# EAGLE library part 74XX04 (library yapo)
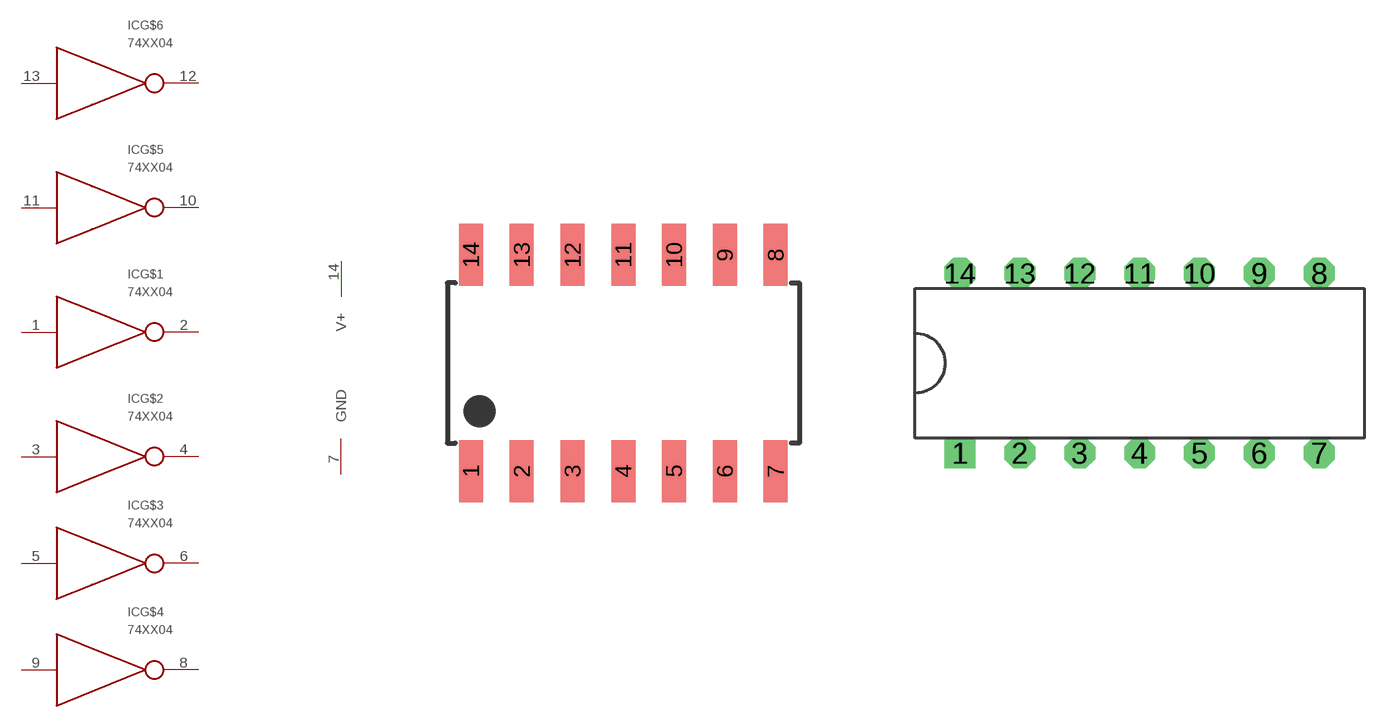
[diagram p80: symbol with the pads of SOIC-14; footprints SOIC-14, DIP14]

Designator prefix IC; gates G$1=INVERTER-SINGLE G$2=INVERTER-SINGLE G$3=INVERTER-SINGLE G$4=INVERTER-SINGLE G$5=INVERTER-SINGLE G$6=INVERTER-SINGLE G$7=LOGIC_SUPPLY

## 74XX04  [SOIC-14]
1  G$1:IN
2  G$1:OUT
3  G$2:IN
4  G$2:OUT
5  G$3:IN
6  G$3:OUT
7  G$7:GND
8  G$4:OUT
9  G$4:IN
10  G$5:OUT
11  G$5:IN
12  G$6:OUT
13  G$6:IN
14  G$7:V+

## 74XX04DIP  [DIP14]
Pads as for SOIC-14

## Footprint SOIC-14 (pad centres in mm)
smd 0.6 x 1.55: 1 -3.81,-2.7; 2 -2.54,-2.7; 3 -1.27,-2.7; 4 0,-2.7; 5 1.27,-2.7; 6 2.54,-2.7; 7 3.81,-2.7; 8 3.81,2.7; 9 2.54,2.7; 10 1.27,2.7; 11 0,2.7; 12 -1.27,2.7; 13 -2.54,2.7; 14 -3.81,2.7

## Footprint DIP14 (pad centres in mm)
drill 0.8 square: 1 -7.62,-3.81
drill 0.8 octagon: 2 -5.08,-3.81; 3 -2.54,-3.81; 4 0,-3.81; 5 2.54,-3.81; 6 5.08,-3.81; 7 7.62,-3.81; 8 7.62,3.81; 9 5.08,3.81; 10 2.54,3.81; 11 0,3.81; 12 -2.54,3.81; 13 -5.08,3.81; 14 -7.62,3.81